# Altium schematic symbol library Diodes.SchLib: 2 symbols
Pins are listed as number, name and electrical type; pins without a type are passive.

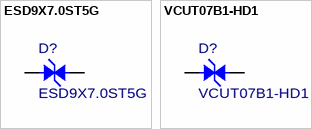
[diagram p0: symbols ESD9X7.0ST5G to VCUT07B1-HD1]

## ESD9X7.0ST5G
designator D?
DIODE, ESD SUPPRESSOR, SINGLE LINE BI-DIRECTIONAL, SOD-923; Manufacturer: Diodes Inc.; active: 1; committed: 0; manufacturer_pn: ESD9X7.0ST5G; Created_on: 1/2/2014 7:11:16 PM; parttype: Diode; rohs: -1; updated_on: 1/2/2014 7:12:49 PM
footprint SOD-923
pins: 1, 2

## VCUT07B1-HD1
designator D?
DIODE, ESD SUPPRESSOR, SINGLE LINE BI-DIRECTIONAL, LLP1006-2L; Manufacturer: Vishay; active: 1; committed: 0; manufacturer_pn: VCUT07B1-HD1; Created_on: 1/2/2014 7:11:16 PM; parttype: Diode; rohs: -1; updated_on: 1/2/2014 7:12:49 PM
footprint LLP1006-2L
pins: 1, 2